# Altium schematic symbol library SCH - CONNECTORS - GENERIC - 6 PIN DUAL ROW.SCHLIB: 1 symbol
Pins are listed as number, name and electrical type; pins without a type are passive.

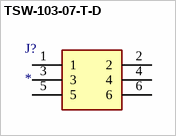
[diagram p0: symbol TSW-103-07-T-D]

## TSW-103-07-T-D
designator J?
Number of Positions: 6 Position / Pitch: 2.54 mm / Number of Rows: 2 Row
pins: 1, 2, 3, 4, 5, 6